# EAGLE library part 2X4 (library headers.edge(.1in))
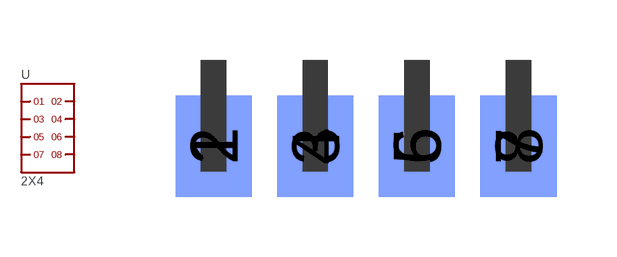
[diagram p6: symbol with the pads of 2X4; footprint 2X4]

Designator prefix -

## 2X4  [2X4]
1  1
2  2
3  3
4  4
5  5
6  6
7  7
8  8

## Footprint 2X4 (pad centres in mm)
smd 1.905 x 2.54: 1 0,-2.159; 3 2.54,-2.159; 5 5.08,-2.159; 7 7.62,-2.159
smd 1.905 x 2.54 bottom: 2 0,-2.159; 4 2.54,-2.159; 6 5.08,-2.159; 8 7.62,-2.159